# Altium integrated library Capacitor - Ceramic - Sumsung.IntLib: 1421 symbols (part 13 of 22)
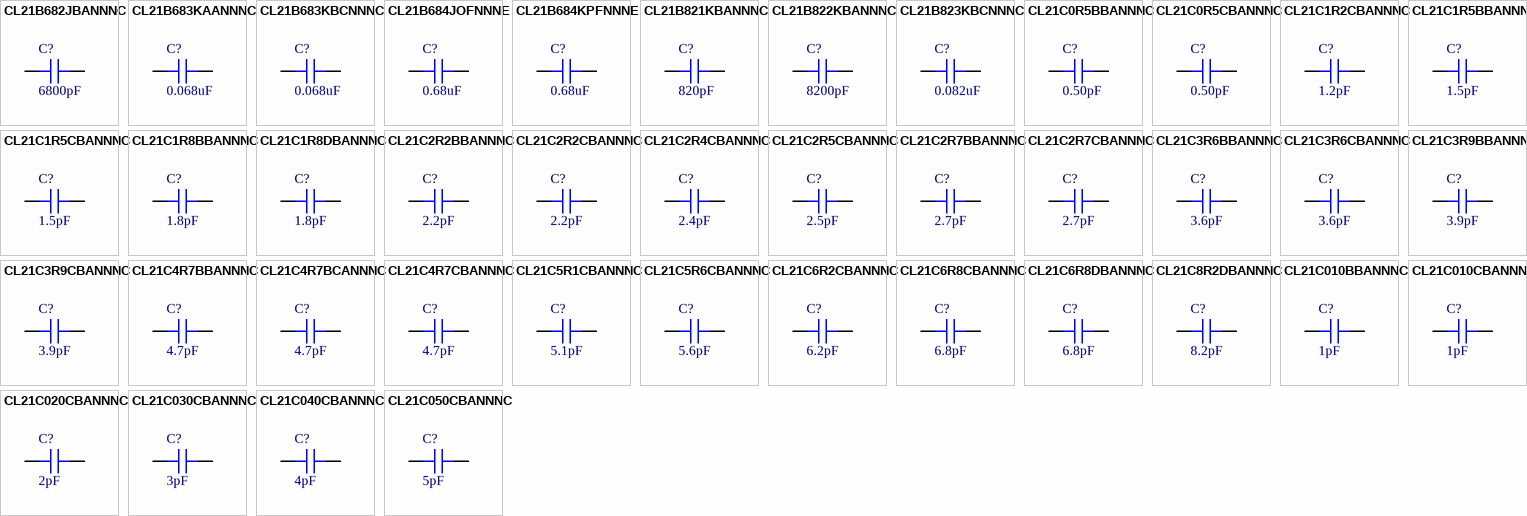
[diagram p47: symbols CL21B682JBANNNC to CL21C050CBANNNC]

## CL21B684KPFNNNE
designator C?, comment 0.68uF
CAP CER 0.68UF 10V X7R 0805; Part Number: CL21B684KPFNNNE; Manufacturer: Samsung Electro-Mechanics America, Inc.; TemperatureRange: -55C ~ 125C; Tolerance: 10%; Value: 0.68uF; PartId: 5923; Supplier 1: Digi-Key; Supplier Part Number 1: 1276-2979-2-ND; ComponentLink1Description: Datasheet; ComponentLink1URL: http://www.samsungsem.com/kr/support/product-search/mlcc/CL21B684KPFNNNE.jsp; ComponentLink2Description: Digi-Key listing; ComponentLink2URL: http://digikey.com/product-detail/en/CL21B684KPFNNNE/1276-2979-2-ND/3888637; TemperatureCoefficient: X7R; Voltage: 10V; Price: 0.0405; Type: -; Device Package: 0805 (2012 Metric)
footprint CAP 0805/2012
pins: 1, 2

## CL21B821KBANNNC
designator C?, comment 820pF
CAP CER 820PF 50V X7R 0805; Part Number: CL21B821KBANNNC; Manufacturer: Samsung Electro-Mechanics America, Inc.; TemperatureRange: -55C ~ 125C; Tolerance: 10%; Value: 820pF; PartId: 5744; Supplier 1: Digi-Key; Supplier Part Number 1: 1276-2544-2-ND; ComponentLink1Description: Datasheet; ComponentLink1URL: http://www.samsungsem.com/kr/support/product-search/mlcc/CL21B821KBANNNC.jsp; ComponentLink2Description: Digi-Key listing; ComponentLink2URL: http://digikey.com/product-detail/en/CL21B821KBANNNC/1276-2544-2-ND/3888202; TemperatureCoefficient: X7R; Voltage: 50V; Price: 0.0153; Type: -; Device Package: 0805 (2012 Metric)
footprint CAP 0805/2012
pins: 1, 2

## CL21B822KBANNNC
designator C?, comment 8200pF
CAP CER 8200PF 50V X7R 0805; Part Number: CL21B822KBANNNC; Manufacturer: Samsung Electro-Mechanics America, Inc.; TemperatureRange: -55C ~ 125C; Tolerance: 10%; Value: 8200pF; PartId: 5738; Supplier 1: Digi-Key; Supplier Part Number 1: 1276-2546-2-ND; ComponentLink1Description: Datasheet; ComponentLink1URL: http://www.samsungsem.com/kr/support/product-search/mlcc/CL21B822KBANNNC.jsp; ComponentLink2Description: Digi-Key listing; ComponentLink2URL: http://digikey.com/product-detail/en/CL21B822KBANNNC/1276-2546-2-ND/3888204; TemperatureCoefficient: X7R; Voltage: 50V; Price: 0.0153; Type: -; Device Package: 0805 (2012 Metric)
footprint CAP 0805/2012
pins: 1, 2

## CL21B823KBCNNNC
designator C?, comment 0.082uF
CAP CER 0.082UF 50V X7R 0805; Part Number: CL21B823KBCNNNC; Manufacturer: Samsung Electro-Mechanics America, Inc.; TemperatureRange: -55C ~ 125C; Tolerance: 10%; Value: 0.082uF; PartId: 5876; Supplier 1: Digi-Key; Supplier Part Number 1: 1276-2547-2-ND; ComponentLink1Description: Datasheet; ComponentLink1URL: http://www.samsungsem.com/kr/support/product-search/mlcc/CL21B823KBCNNNC.jsp; ComponentLink2Description: Digi-Key listing; ComponentLink2URL: http://digikey.com/product-detail/en/CL21B823KBCNNNC/1276-2547-2-ND/3888205; TemperatureCoefficient: X7R; Voltage: 50V; Price: 0.0308; Type: -; Device Package: 0805 (2012 Metric)
footprint CAP 0805/2012
pins: 1, 2

## CL21C0R5BBANNNC
designator C?, comment 0.50pF
CAP CER 0.50PF 50V NP0 0805; Part Number: CL21C0R5BBANNNC; Manufacturer: Samsung Electro-Mechanics America, Inc.; TemperatureRange: -55C ~ 125C; TemperatureCoefficient: C0G, NP0; Tolerance: 0.1pF; Value: 0.50pF; PartId: 5684; Supplier 1: Digi-Key; Supplier Part Number 1: 1276-1200-2-ND; ComponentLink1Description: Datasheet; ComponentLink1URL: http://www.samsungsem.com/kr/support/product-search/mlcc/CL21C0R5BBANNNC.jsp; ComponentLink2Description: Digi-Key listing; ComponentLink2URL: http://digikey.com/product-detail/en/CL21C0R5BBANNNC/1276-1200-2-ND/3886858; Voltage: 50V; Price: 0.0065; Type: -; Device Package: 0805 (2012 Metric)
footprint CAP 0805/2012
pins: 1, 2

## CL21C0R5CBANNNC
designator C?, comment 0.50pF
CAP CER 0.50PF 50V NP0 0805; Part Number: CL21C0R5CBANNNC; Manufacturer: Samsung Electro-Mechanics America, Inc.; TemperatureRange: -55C ~ 125C; TemperatureCoefficient: C0G, NP0; Tolerance: 0.25pF; Value: 0.50pF; PartId: 5774; Supplier 1: Digi-Key; Supplier Part Number 1: 1276-2560-2-ND; ComponentLink1Description: Datasheet; ComponentLink1URL: http://www.samsungsem.com/kr/support/product-search/mlcc/CL21C0R5CBANNNC.jsp; ComponentLink2Description: Digi-Key listing; ComponentLink2URL: http://digikey.com/product-detail/en/CL21C0R5CBANNNC/1276-2560-2-ND/3888218; Voltage: 50V; Price: 0.0163; Type: -; Device Package: 0805 (2012 Metric)
footprint CAP 0805/2012
pins: 1, 2

## CL21C1R2CBANNNC
designator C?, comment 1.2pF
CAP CER 1.2PF 50V NP0 0805; Part Number: CL21C1R2CBANNNC; Manufacturer: Samsung Electro-Mechanics America, Inc.; TemperatureRange: -55C ~ 125C; TemperatureCoefficient: C0G, NP0; Tolerance: 0.25pF; Value: 1.2pF; PartId: 5766; Supplier 1: Digi-Key; Supplier Part Number 1: 1276-2596-2-ND; ComponentLink1Description: Datasheet; ComponentLink1URL: http://www.samsungsem.com/kr/support/product-search/mlcc/CL21C1R2CBANNNC.jsp; ComponentLink2Description: Digi-Key listing; ComponentLink2URL: http://digikey.com/product-detail/en/CL21C1R2CBANNNC/1276-2596-2-ND/3888254; Voltage: 50V; Price: 0.0163; Type: -; Device Package: 0805 (2012 Metric)
footprint CAP 0805/2012
pins: 1, 2

## CL21C1R5BBANNNC
designator C?, comment 1.5pF
CAP CER 1.5PF 50V NP0 0805; Part Number: CL21C1R5BBANNNC; Manufacturer: Samsung Electro-Mechanics America, Inc.; TemperatureRange: -55C ~ 125C; TemperatureCoefficient: C0G, NP0; Tolerance: 0.1pF; Value: 1.5pF; PartId: 5687; Supplier 1: Digi-Key; Supplier Part Number 1: 1276-2597-2-ND; ComponentLink1Description: Datasheet; ComponentLink1URL: http://www.samsungsem.com/kr/support/product-search/mlcc/CL21C1R5BBANNNC.jsp; ComponentLink2Description: Digi-Key listing; ComponentLink2URL: http://digikey.com/product-detail/en/CL21C1R5BBANNNC/1276-2597-2-ND/3888255; Voltage: 50V; Price: 0.0068; Type: -; Device Package: 0805 (2012 Metric)
footprint CAP 0805/2012
pins: 1, 2

## CL21C1R5CBANNNC
designator C?, comment 1.5pF
CAP CER 1.5PF 50V NP0 0805; Part Number: CL21C1R5CBANNNC; Manufacturer: Samsung Electro-Mechanics America, Inc.; TemperatureRange: -55C ~ 125C; TemperatureCoefficient: C0G, NP0; Tolerance: 0.25pF; Value: 1.5pF; PartId: 5759; Supplier 1: Digi-Key; Supplier Part Number 1: 1276-2598-2-ND; ComponentLink1Description: Datasheet; ComponentLink1URL: http://www.samsungsem.com/kr/support/product-search/mlcc/CL21C1R5CBANNNC.jsp; ComponentLink2Description: Digi-Key listing; ComponentLink2URL: http://digikey.com/product-detail/en/CL21C1R5CBANNNC/1276-2598-2-ND/3888256; Voltage: 50V; Price: 0.0163; Type: -; Device Package: 0805 (2012 Metric)
footprint CAP 0805/2012
pins: 1, 2

## CL21C1R8BBANNNC
designator C?, comment 1.8pF
CAP CER 1.8PF 50V NP0 0805; Part Number: CL21C1R8BBANNNC; Manufacturer: Samsung Electro-Mechanics America, Inc.; TemperatureRange: -55C ~ 125C; TemperatureCoefficient: C0G, NP0; Tolerance: 0.1pF; Value: 1.8pF; PartId: 5688; Supplier 1: Digi-Key; Supplier Part Number 1: 1276-1800-2-ND; ComponentLink1Description: Datasheet; ComponentLink1URL: http://www.samsungsem.com/kr/support/product-search/mlcc/CL21C1R8BBANNNC.jsp; ComponentLink2Description: Digi-Key listing; ComponentLink2URL: http://digikey.com/product-detail/en/CL21C1R8BBANNNC/1276-1800-2-ND/3887458; Voltage: 50V; Price: 0.0068; Type: -; Device Package: 0805 (2012 Metric)
footprint CAP 0805/2012
pins: 1, 2

## CL21C1R8DBANNNC
designator C?, comment 1.8pF
CAP CER 1.8PF 50V NP0 0805; Part Number: CL21C1R8DBANNNC; Manufacturer: Samsung Electro-Mechanics America, Inc.; TemperatureRange: -55C ~ 125C; TemperatureCoefficient: C0G, NP0; Tolerance: 0.5pF; Value: 1.8pF; PartId: 5685; Supplier 1: Digi-Key; Supplier Part Number 1: 1276-2600-2-ND; ComponentLink1Description: Datasheet; ComponentLink1URL: http://www.samsungsem.com/kr/support/product-search/mlcc/CL21C1R8DBANNNC.jsp; ComponentLink2Description: Digi-Key listing; ComponentLink2URL: http://digikey.com/product-detail/en/CL21C1R8DBANNNC/1276-2600-2-ND/3888258; Voltage: 50V; Price: 0.0066; Type: -; Device Package: 0805 (2012 Metric)
footprint CAP 0805/2012
pins: 1, 2

## CL21C2R2BBANNNC
designator C?, comment 2.2pF
CAP CER 2.2PF 50V NP0 0805; Part Number: CL21C2R2BBANNNC; Manufacturer: Samsung Electro-Mechanics America, Inc.; TemperatureRange: -55C ~ 125C; TemperatureCoefficient: C0G, NP0; Tolerance: 0.1pF; Value: 2.2pF; PartId: 5682; Supplier 1: Digi-Key; Supplier Part Number 1: 1276-2629-2-ND; ComponentLink1Description: Datasheet; ComponentLink1URL: http://www.samsungsem.com/kr/support/product-search/mlcc/CL21C2R2BBANNNC.jsp; ComponentLink2Description: Digi-Key listing; ComponentLink2URL: http://digikey.com/product-detail/en/CL21C2R2BBANNNC/1276-2629-2-ND/3888287; Voltage: 50V; Price: 0.0061; Type: -; Device Package: 0805 (2012 Metric)
footprint CAP 0805/2012
pins: 1, 2

## CL21C2R2CBANNNC
designator C?, comment 2.2pF
CAP CER 2.2PF 50V NP0 0805; Part Number: CL21C2R2CBANNNC; Manufacturer: Samsung Electro-Mechanics America, Inc.; TemperatureRange: -55C ~ 125C; TemperatureCoefficient: C0G, NP0; Tolerance: 0.25pF; Value: 2.2pF; PartId: 5768; Supplier 1: Digi-Key; Supplier Part Number 1: 1276-1302-2-ND; ComponentLink1Description: Datasheet; ComponentLink1URL: http://www.samsungsem.com/kr/support/product-search/mlcc/CL21C2R2CBANNNC.jsp; ComponentLink2Description: Digi-Key listing; ComponentLink2URL: http://digikey.com/product-detail/en/CL21C2R2CBANNNC/1276-1302-2-ND/3886960; Voltage: 50V; Price: 0.0163; Type: -; Device Package: 0805 (2012 Metric)
footprint CAP 0805/2012
pins: 1, 2

## CL21C2R4CBANNNC
designator C?, comment 2.4pF
CAP CER 2.4PF 50V NP0 0805; Part Number: CL21C2R4CBANNNC; Manufacturer: Samsung Electro-Mechanics America, Inc.; TemperatureRange: -55C ~ 125C; TemperatureCoefficient: C0G, NP0; Tolerance: 0.25pF; Value: 2.4pF; PartId: 5671; Supplier 1: Digi-Key; Supplier Part Number 1: 1276-2630-2-ND; ComponentLink1Description: Datasheet; ComponentLink1URL: http://www.samsungsem.com/kr/support/product-search/mlcc/CL21C2R4CBANNNC.jsp; ComponentLink2Description: Digi-Key listing; ComponentLink2URL: http://digikey.com/product-detail/en/CL21C2R4CBANNNC/1276-2630-2-ND/3888288; Voltage: 50V; Price: 0.0054; Type: -; Device Package: 0805 (2012 Metric)
footprint CAP 0805/2012
pins: 1, 2

## CL21C2R5CBANNNC
designator C?, comment 2.5pF
CAP CER 2.5PF 50V NP0 0805; Part Number: CL21C2R5CBANNNC; Manufacturer: Samsung Electro-Mechanics America, Inc.; TemperatureRange: -55C ~ 125C; TemperatureCoefficient: C0G, NP0; Tolerance: 0.25pF; Value: 2.5pF; PartId: 5677; Supplier 1: Digi-Key; Supplier Part Number 1: 1276-2631-2-ND; ComponentLink1Description: Datasheet; ComponentLink1URL: http://www.samsungsem.com/kr/support/product-search/mlcc/CL21C2R5CBANNNC.jsp; ComponentLink2Description: Digi-Key listing; ComponentLink2URL: http://digikey.com/product-detail/en/CL21C2R5CBANNNC/1276-2631-2-ND/3888289; Voltage: 50V; Price: 0.0054; Type: -; Device Package: 0805 (2012 Metric)
footprint CAP 0805/2012
pins: 1, 2

## CL21C2R7BBANNNC
designator C?, comment 2.7pF
CAP CER 2.7PF 50V NP0 0805; Part Number: CL21C2R7BBANNNC; Manufacturer: Samsung Electro-Mechanics America, Inc.; TemperatureRange: -55C ~ 125C; TemperatureCoefficient: C0G, NP0; Tolerance: 0.1pF; Value: 2.7pF; PartId: 5689; Supplier 1: Digi-Key; Supplier Part Number 1: 1276-2632-2-ND; ComponentLink1Description: Datasheet; ComponentLink1URL: http://www.samsungsem.com/kr/support/product-search/mlcc/CL21C2R7BBANNNC.jsp; ComponentLink2Description: Digi-Key listing; ComponentLink2URL: http://digikey.com/product-detail/en/CL21C2R7BBANNNC/1276-2632-2-ND/3888290; Voltage: 50V; Price: 0.0068; Type: -; Device Package: 0805 (2012 Metric)
footprint CAP 0805/2012
pins: 1, 2

## CL21C2R7CBANNNC
designator C?, comment 2.7pF
CAP CER 2.7PF 50V NP0 0805; Part Number: CL21C2R7CBANNNC; Manufacturer: Samsung Electro-Mechanics America, Inc.; TemperatureRange: -55C ~ 125C; TemperatureCoefficient: C0G, NP0; Tolerance: 0.25pF; Value: 2.7pF; PartId: 5770; Supplier 1: Digi-Key; Supplier Part Number 1: 1276-2633-2-ND; ComponentLink1Description: Datasheet; ComponentLink1URL: http://www.samsungsem.com/kr/support/product-search/mlcc/CL21C2R7CBANNNC.jsp; ComponentLink2Description: Digi-Key listing; ComponentLink2URL: http://digikey.com/product-detail/en/CL21C2R7CBANNNC/1276-2633-2-ND/3888291; Voltage: 50V; Price: 0.0163; Type: -; Device Package: 0805 (2012 Metric)
footprint CAP 0805/2012
pins: 1, 2

## CL21C3R6BBANNNC
designator C?, comment 3.6pF
CAP CER 3.6PF 50V NP0 0805; Part Number: CL21C3R6BBANNNC; Manufacturer: Samsung Electro-Mechanics America, Inc.; TemperatureRange: -55C ~ 125C; TemperatureCoefficient: C0G, NP0; Tolerance: 0.1pF; Value: 3.6pF; PartId: 5702; Supplier 1: Digi-Key; Supplier Part Number 1: 1276-2655-2-ND; ComponentLink1Description: Datasheet; ComponentLink1URL: http://www.samsungsem.com/kr/support/product-search/mlcc/CL21C3R6BBANNNC.jsp; ComponentLink2Description: Digi-Key listing; ComponentLink2URL: http://digikey.com/product-detail/en/CL21C3R6BBANNNC/1276-2655-2-ND/3888313; Voltage: 50V; Price: 0.0109; Type: -; Device Package: 0805 (2012 Metric)
footprint CAP 0805/2012
pins: 1, 2

## CL21C3R6CBANNNC
designator C?, comment 3.6pF
CAP CER 3.6PF 50V NP0 0805; Part Number: CL21C3R6CBANNNC; Manufacturer: Samsung Electro-Mechanics America, Inc.; TemperatureRange: -55C ~ 125C; TemperatureCoefficient: C0G, NP0; Tolerance: 0.25pF; Value: 3.6pF; PartId: 5675; Supplier 1: Digi-Key; Supplier Part Number 1: 1276-1831-2-ND; ComponentLink1Description: Datasheet; ComponentLink1URL: http://www.samsungsem.com/kr/support/product-search/mlcc/CL21C3R6CBANNNC.jsp; ComponentLink2Description: Digi-Key listing; ComponentLink2URL: http://digikey.com/product-detail/en/CL21C3R6CBANNNC/1276-1831-2-ND/3887489; Voltage: 50V; Price: 0.0054; Type: -; Device Package: 0805 (2012 Metric)
footprint CAP 0805/2012
pins: 1, 2

## CL21C3R9BBANNNC
designator C?, comment 3.9pF
CAP CER 3.9PF 50V NP0 0805; Part Number: CL21C3R9BBANNNC; Manufacturer: Samsung Electro-Mechanics America, Inc.; TemperatureRange: -55C ~ 125C; TemperatureCoefficient: C0G, NP0; Tolerance: 0.1pF; Value: 3.9pF; PartId: 5701; Supplier 1: Digi-Key; Supplier Part Number 1: 1276-1801-2-ND; ComponentLink1Description: Datasheet; ComponentLink1URL: http://www.samsungsem.com/kr/support/product-search/mlcc/CL21C3R9BBANNNC.jsp; ComponentLink2Description: Digi-Key listing; ComponentLink2URL: http://digikey.com/product-detail/en/CL21C3R9BBANNNC/1276-1801-2-ND/3887459; Voltage: 50V; Price: 0.0105; Type: -; Device Package: 0805 (2012 Metric)
footprint CAP 0805/2012
pins: 1, 2

## CL21C3R9CBANNNC
designator C?, comment 3.9pF
CAP CER 3.9PF 50V NP0 0805; Part Number: CL21C3R9CBANNNC; Manufacturer: Samsung Electro-Mechanics America, Inc.; TemperatureRange: -55C ~ 125C; TemperatureCoefficient: C0G, NP0; Tolerance: 0.25pF; Value: 3.9pF; PartId: 5755; Supplier 1: Digi-Key; Supplier Part Number 1: 1276-1304-2-ND; ComponentLink1Description: Datasheet; ComponentLink1URL: http://www.samsungsem.com/kr/support/product-search/mlcc/CL21C3R9CBANNNC.jsp; ComponentLink2Description: Digi-Key listing; ComponentLink2URL: http://digikey.com/product-detail/en/CL21C3R9CBANNNC/1276-1304-2-ND/3886962; Voltage: 50V; Price: 0.0163; Type: -; Device Package: 0805 (2012 Metric)
footprint CAP 0805/2012
pins: 1, 2

## CL21C4R7BBANNNC
designator C?, comment 4.7pF
CAP CER 4.7PF 50V NP0 0805; Part Number: CL21C4R7BBANNNC; Manufacturer: Samsung Electro-Mechanics America, Inc.; TemperatureRange: -55C ~ 125C; TemperatureCoefficient: C0G, NP0; Tolerance: 0.1pF; Value: 4.7pF; PartId: 5686; Supplier 1: Digi-Key; Supplier Part Number 1: 1276-1832-2-ND; ComponentLink1Description: Datasheet; ComponentLink1URL: http://www.samsungsem.com/kr/support/product-search/mlcc/CL21C4R7BBANNNC.jsp; ComponentLink2Description: Digi-Key listing; ComponentLink2URL: http://digikey.com/product-detail/en/CL21C4R7BBANNNC/1276-1832-2-ND/3887490; Voltage: 50V; Price: 0.0068; Type: -; Device Package: 0805 (2012 Metric)
footprint CAP 0805/2012
pins: 1, 2

## CL21C4R7BCANNNC
designator C?, comment 4.7pF
CAP CER 4.7PF 100V NP0 0805; Part Number: CL21C4R7BCANNNC; Manufacturer: Samsung Electro-Mechanics America, Inc.; TemperatureRange: -55C ~ 125C; TemperatureCoefficient: C0G, NP0; Tolerance: 0.1pF; Value: 4.7pF; PartId: 5796; Supplier 1: Digi-Key; Supplier Part Number 1: 1276-2669-2-ND; ComponentLink1Description: Datasheet; ComponentLink1URL: http://www.samsungsem.com/kr/support/product-search/mlcc/CL21C4R7BCANNNC.jsp; ComponentLink2Description: Digi-Key listing; ComponentLink2URL: http://digikey.com/product-detail/en/CL21C4R7BCANNNC/1276-2669-2-ND/3888327; Voltage: 100V; Price: 0.018; Type: -; Device Package: 0805 (2012 Metric)
footprint CAP 0805/2012
pins: 1, 2

## CL21C4R7CBANNNC
designator C?, comment 4.7pF
CAP CER 4.7PF 50V NP0 0805; Part Number: CL21C4R7CBANNNC; Manufacturer: Samsung Electro-Mechanics America, Inc.; TemperatureRange: -55C ~ 125C; TemperatureCoefficient: C0G, NP0; Tolerance: 0.25pF; Value: 4.7pF; PartId: 5767; Supplier 1: Digi-Key; Supplier Part Number 1: 1276-1263-2-ND; ComponentLink1Description: Datasheet; ComponentLink1URL: http://www.samsungsem.com/kr/support/product-search/mlcc/CL21C4R7CBANNNC.jsp; ComponentLink2Description: Digi-Key listing; ComponentLink2URL: http://digikey.com/product-detail/en/CL21C4R7CBANNNC/1276-1263-2-ND/3886921; Voltage: 50V; Price: 0.0163; Type: -; Device Package: 0805 (2012 Metric)
footprint CAP 0805/2012
pins: 1, 2

## CL21C5R1CBANNNC
designator C?, comment 5.1pF
CAP CER 5.1PF 50V NP0 0805; Part Number: CL21C5R1CBANNNC; Manufacturer: Samsung Electro-Mechanics America, Inc.; TemperatureRange: -55C ~ 125C; TemperatureCoefficient: C0G, NP0; Tolerance: 0.25pF; Value: 5.1pF; PartId: 5696; Supplier 1: Digi-Key; Supplier Part Number 1: 1276-2674-2-ND; ComponentLink1Description: Datasheet; ComponentLink1URL: http://www.samsungsem.com/kr/support/product-search/mlcc/CL21C5R1CBANNNC.jsp; ComponentLink2Description: Digi-Key listing; ComponentLink2URL: http://digikey.com/product-detail/en/CL21C5R1CBANNNC/1276-2674-2-ND/3888332; Voltage: 50V; Price: 0.0082; Type: -; Device Package: 0805 (2012 Metric)
footprint CAP 0805/2012
pins: 1, 2

## CL21C5R6CBANNNC
designator C?, comment 5.6pF
CAP CER 5.6PF 50V NP0 0805; Part Number: CL21C5R6CBANNNC; Manufacturer: Samsung Electro-Mechanics America, Inc.; TemperatureRange: -55C ~ 125C; TemperatureCoefficient: C0G, NP0; Tolerance: 0.25pF; Value: 5.6pF; PartId: 5828; Supplier 1: Digi-Key; Supplier Part Number 1: 1276-1190-2-ND; ComponentLink1Description: Datasheet; ComponentLink1URL: http://www.samsungsem.com/kr/support/product-search/mlcc/CL21C5R6CBANNNC.jsp; ComponentLink2Description: Digi-Key listing; ComponentLink2URL: http://digikey.com/product-detail/en/CL21C5R6CBANNNC/1276-1190-2-ND/3886848; Voltage: 50V; Price: 0.0225; Type: -; Device Package: 0805 (2012 Metric)
footprint CAP 0805/2012
pins: 1, 2

## CL21C6R2CBANNNC
designator C?, comment 6.2pF
CAP CER 6.2PF 50V NP0 0805; Part Number: CL21C6R2CBANNNC; Manufacturer: Samsung Electro-Mechanics America, Inc.; TemperatureRange: -55C ~ 125C; TemperatureCoefficient: C0G, NP0; Tolerance: 0.25pF; Value: 6.2pF; PartId: 5698; Supplier 1: Digi-Key; Supplier Part Number 1: 1276-2688-2-ND; ComponentLink1Description: Datasheet; ComponentLink1URL: http://www.samsungsem.com/kr/support/product-search/mlcc/CL21C6R2CBANNNC.jsp; ComponentLink2Description: Digi-Key listing; ComponentLink2URL: http://digikey.com/product-detail/en/CL21C6R2CBANNNC/1276-2688-2-ND/3888346; Voltage: 50V; Price: 0.0095; Type: -; Device Package: 0805 (2012 Metric)
footprint CAP 0805/2012
pins: 1, 2

## CL21C6R8CBANNNC
designator C?, comment 6.8pF
CAP CER 6.8PF 50V NP0 0805; Part Number: CL21C6R8CBANNNC; Manufacturer: Samsung Electro-Mechanics America, Inc.; TemperatureRange: -55C ~ 125C; TemperatureCoefficient: C0G, NP0; Tolerance: 0.25pF; Value: 6.8pF; PartId: 5784; Supplier 1: Digi-Key; Supplier Part Number 1: 1276-1064-2-ND; ComponentLink1Description: Datasheet; ComponentLink1URL: http://www.samsungsem.com/kr/support/product-search/mlcc/CL21C6R8CBANNNC.jsp; ComponentLink2Description: Digi-Key listing; ComponentLink2URL: http://digikey.com/product-detail/en/CL21C6R8CBANNNC/1276-1064-2-ND/3886722; Voltage: 50V; Price: 0.0173; Type: -; Device Package: 0805 (2012 Metric)
footprint CAP 0805/2012
pins: 1, 2

## CL21C6R8DBANNNC
designator C?, comment 6.8pF
CAP CER 6.8PF 50V NP0 0805; Part Number: CL21C6R8DBANNNC; Manufacturer: Samsung Electro-Mechanics America, Inc.; TemperatureRange: -55C ~ 125C; TemperatureCoefficient: C0G, NP0; Tolerance: 0.5pF; Value: 6.8pF; PartId: 5775; Supplier 1: Digi-Key; Supplier Part Number 1: 1276-2689-2-ND; ComponentLink1Description: Datasheet; ComponentLink1URL: http://www.samsungsem.com/kr/support/product-search/mlcc/CL21C6R8DBANNNC.jsp; ComponentLink2Description: Digi-Key listing; ComponentLink2URL: http://digikey.com/product-detail/en/CL21C6R8DBANNNC/1276-2689-2-ND/3888347; Voltage: 50V; Price: 0.0163; Type: -; Device Package: 0805 (2012 Metric)
footprint CAP 0805/2012
pins: 1, 2

## CL21C8R2DBANNNC
designator C?, comment 8.2pF
CAP CER 8.2PF 50V NP0 0805; Part Number: CL21C8R2DBANNNC; Manufacturer: Samsung Electro-Mechanics America, Inc.; TemperatureRange: -55C ~ 125C; TemperatureCoefficient: C0G, NP0; Tolerance: 0.5pF; Value: 8.2pF; PartId: 5771; Supplier 1: Digi-Key; Supplier Part Number 1: 1276-2697-2-ND; ComponentLink1Description: Datasheet; ComponentLink1URL: http://www.samsungsem.com/kr/support/product-search/mlcc/CL21C8R2DBANNNC.jsp; ComponentLink2Description: Digi-Key listing; ComponentLink2URL: http://digikey.com/product-detail/en/CL21C8R2DBANNNC/1276-2697-2-ND/3888355; Voltage: 50V; Price: 0.0163; Type: -; Device Package: 0805 (2012 Metric)
footprint CAP 0805/2012
pins: 1, 2

## CL21C010BBANNNC
designator C?, comment 1pF
CAP CER 1PF 50V NP0 0805; Part Number: CL21C010BBANNNC; Manufacturer: Samsung Electro-Mechanics America, Inc.; TemperatureRange: -55C ~ 125C; TemperatureCoefficient: C0G, NP0; Tolerance: 0.1pF; Value: 1pF; PartId: 13979; Supplier 1: Digi-Key; Supplier Part Number 1: 1276-1766-2-ND; ComponentLink1Description: Datasheet; ComponentLink1URL: http://www.samsungsem.com/kr/support/product-search/mlcc/CL21C010BBANNNC.jsp; ComponentLink2Description: Digi-Key Listing; ComponentLink2URL: https://www.digikey.com/product-detail/en/samsung-electro-mechanics-america-inc/CL21C010BBANNNC/1276-1766-2-ND/3887424; Voltage: 50V; Price: 0.0045; Device Package: 0805 (2012 Metric)
footprint CAP 0805/2012
pins: 1, 2

## CL21C010CBANNNC
designator C?, comment 1pF
CAP CER 1PF 50V NP0 0805; Part Number: CL21C010CBANNNC; Manufacturer: Samsung Electro-Mechanics America, Inc.; TemperatureRange: -55C ~ 125C; TemperatureCoefficient: C0G, NP0; Tolerance: 0.25pF; Value: 1pF; PartId: 5761; Supplier 1: Digi-Key; Supplier Part Number 1: 1276-2548-2-ND; ComponentLink1Description: Datasheet; ComponentLink1URL: http://www.samsungsem.com/kr/support/product-search/mlcc/CL21C010CBANNNC.jsp; ComponentLink2Description: Digi-Key listing; ComponentLink2URL: http://digikey.com/product-detail/en/CL21C010CBANNNC/1276-2548-2-ND/3888206; Voltage: 50V; Price: 0.0163; Type: -; Device Package: 0805 (2012 Metric)
footprint CAP 0805/2012
pins: 1, 2

## CL21C020CBANNNC
designator C?, comment 2pF
CAP CER 2PF 50V NP0 0805; Part Number: CL21C020CBANNNC; Manufacturer: Samsung Electro-Mechanics America, Inc.; TemperatureRange: -55C ~ 125C; TemperatureCoefficient: C0G, NP0; Tolerance: 0.25pF; Value: 2pF; PartId: 5762; Supplier 1: Digi-Key; Supplier Part Number 1: 1276-2549-2-ND; ComponentLink1Description: Datasheet; ComponentLink1URL: http://www.samsungsem.com/kr/support/product-search/mlcc/CL21C020CBANNNC.jsp; ComponentLink2Description: Digi-Key listing; ComponentLink2URL: http://digikey.com/product-detail/en/CL21C020CBANNNC/1276-2549-2-ND/3888207; Voltage: 50V; Price: 0.0163; Type: -; Device Package: 0805 (2012 Metric)
footprint CAP 0805/2012
pins: 1, 2

## CL21C030CBANNNC
designator C?, comment 3pF
CAP CER 3PF 50V NP0 0805; Part Number: CL21C030CBANNNC; Manufacturer: Samsung Electro-Mechanics America, Inc.; TemperatureRange: -55C ~ 125C; TemperatureCoefficient: C0G, NP0; Tolerance: 0.25pF; Value: 3pF; PartId: 5754; Supplier 1: Digi-Key; Supplier Part Number 1: 1276-1301-2-ND; ComponentLink1Description: Datasheet; ComponentLink1URL: http://www.samsungsem.com/kr/support/product-search/mlcc/CL21C030CBANNNC.jsp; ComponentLink2Description: Digi-Key listing; ComponentLink2URL: http://digikey.com/product-detail/en/CL21C030CBANNNC/1276-1301-2-ND/3886959; Voltage: 50V; Price: 0.0163; Type: -; Device Package: 0805 (2012 Metric)
footprint CAP 0805/2012
pins: 1, 2

## CL21C040CBANNNC
designator C?, comment 4pF
CAP CER 4PF 50V NP0 0805; Part Number: CL21C040CBANNNC; Manufacturer: Samsung Electro-Mechanics America, Inc.; TemperatureRange: -55C ~ 125C; TemperatureCoefficient: C0G, NP0; Tolerance: 0.25pF; Value: 4pF; PartId: 5753; Supplier 1: Digi-Key; Supplier Part Number 1: 1276-2551-2-ND; ComponentLink1Description: Datasheet; ComponentLink1URL: http://www.samsungsem.com/kr/support/product-search/mlcc/CL21C040CBANNNC.jsp; ComponentLink2Description: Digi-Key listing; ComponentLink2URL: http://digikey.com/product-detail/en/CL21C040CBANNNC/1276-2551-2-ND/3888209; Voltage: 50V; Price: 0.0163; Type: -; Device Package: 0805 (2012 Metric)
footprint CAP 0805/2012
pins: 1, 2

## CL21C050CBANNNC
designator C?, comment 5pF
CAP CER 5PF 50V NP0 0805; Part Number: CL21C050CBANNNC; Manufacturer: Samsung Electro-Mechanics America, Inc.; TemperatureRange: -55C ~ 125C; TemperatureCoefficient: C0G, NP0; Tolerance: 0.25pF; Value: 5pF; PartId: 5758; Supplier 1: Digi-Key; Supplier Part Number 1: 1276-2552-2-ND; ComponentLink1Description: Datasheet; ComponentLink1URL: http://www.samsungsem.com/kr/support/product-search/mlcc/CL21C050CBANNNC.jsp; ComponentLink2Description: Digi-Key listing; ComponentLink2URL: http://digikey.com/product-detail/en/CL21C050CBANNNC/1276-2552-2-ND/3888210; Voltage: 50V; Price: 0.0163; Type: -; Device Package: 0805 (2012 Metric)
footprint CAP 0805/2012
pins: 1, 2

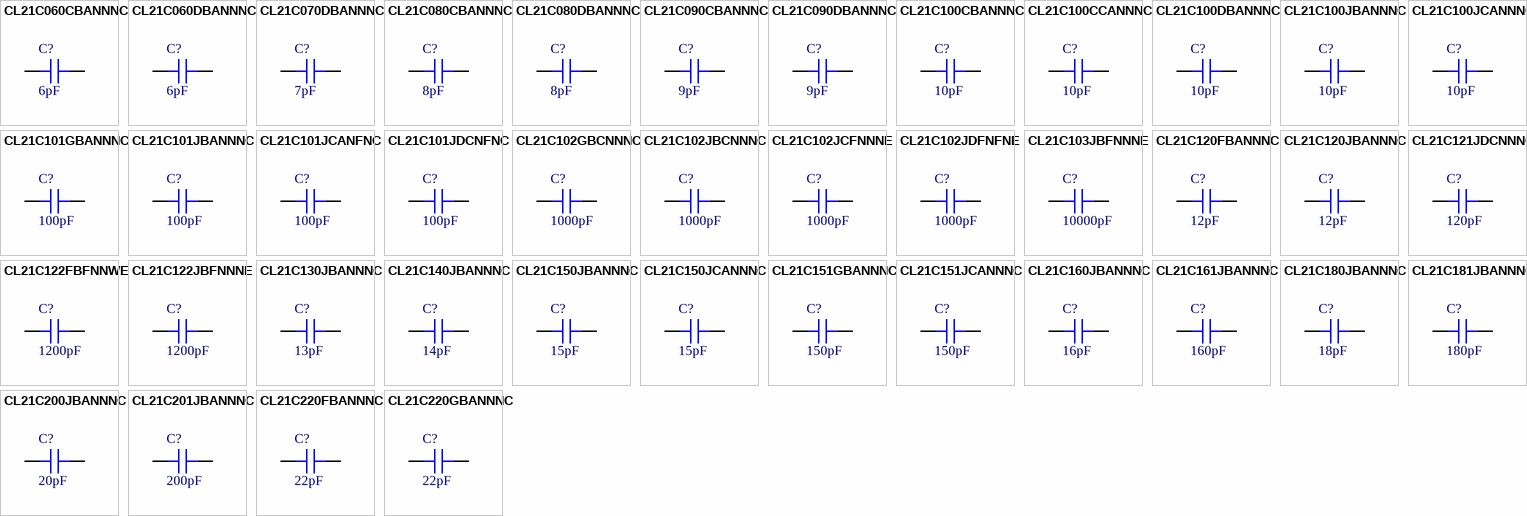
[diagram p21: symbols CL21C060CBANNNC to CL21C220GBANNNC]

## CL21C060CBANNNC
designator C?, comment 6pF
CAP CER 6PF 50V NP0 0805; Part Number: CL21C060CBANNNC; Manufacturer: Samsung Electro-Mechanics America, Inc.; TemperatureRange: -55C ~ 125C; TemperatureCoefficient: C0G, NP0; Tolerance: 0.25pF; Value: 6pF; PartId: 5678; Supplier 1: Digi-Key; Supplier Part Number 1: 1276-1767-2-ND; ComponentLink1Description: Datasheet; ComponentLink1URL: http://www.samsungsem.com/kr/support/product-search/mlcc/CL21C060CBANNNC.jsp; ComponentLink2Description: Digi-Key listing; ComponentLink2URL: http://digikey.com/product-detail/en/CL21C060CBANNNC/1276-1767-2-ND/3887425; Voltage: 50V; Price: 0.0058; Type: -; Device Package: 0805 (2012 Metric)
footprint CAP 0805/2012
pins: 1, 2

## CL21C060DBANNNC
designator C?, comment 6pF
CAP CER 6PF 50V NP0 0805; Part Number: CL21C060DBANNNC; Manufacturer: Samsung Electro-Mechanics America, Inc.; TemperatureRange: -55C ~ 125C; TemperatureCoefficient: C0G, NP0; Tolerance: 0.5pF; Value: 6pF; PartId: 5772; Supplier 1: Digi-Key; Supplier Part Number 1: 1276-2553-2-ND; ComponentLink1Description: Datasheet; ComponentLink1URL: http://www.samsungsem.com/kr/support/product-search/mlcc/CL21C060DBANNNC.jsp; ComponentLink2Description: Digi-Key listing; ComponentLink2URL: http://digikey.com/product-detail/en/CL21C060DBANNNC/1276-2553-2-ND/3888211; Voltage: 50V; Price: 0.0163; Type: -; Device Package: 0805 (2012 Metric)
footprint CAP 0805/2012
pins: 1, 2

## CL21C070DBANNNC
designator C?, comment 7pF
CAP CER 7PF 50V NP0 0805; Part Number: CL21C070DBANNNC; Manufacturer: Samsung Electro-Mechanics America, Inc.; TemperatureRange: -55C ~ 125C; TemperatureCoefficient: C0G, NP0; Tolerance: 0.5pF; Value: 7pF; PartId: 5769; Supplier 1: Digi-Key; Supplier Part Number 1: 1276-2555-2-ND; ComponentLink1Description: Datasheet; ComponentLink1URL: http://www.samsungsem.com/kr/support/product-search/mlcc/CL21C070DBANNNC.jsp; ComponentLink2Description: Digi-Key listing; ComponentLink2URL: http://digikey.com/product-detail/en/CL21C070DBANNNC/1276-2555-2-ND/3888213; Voltage: 50V; Price: 0.0163; Type: -; Device Package: 0805 (2012 Metric)
footprint CAP 0805/2012
pins: 1, 2

## CL21C080CBANNNC
designator C?, comment 8pF
CAP CER 8PF 50V NP0 0805; Part Number: CL21C080CBANNNC; Manufacturer: Samsung Electro-Mechanics America, Inc.; TemperatureRange: -55C ~ 125C; TemperatureCoefficient: C0G, NP0; Tolerance: 0.25pF; Value: 8pF; PartId: 5679; Supplier 1: Digi-Key; Supplier Part Number 1: 1276-2556-2-ND; ComponentLink1Description: Datasheet; ComponentLink1URL: http://www.samsungsem.com/kr/support/product-search/mlcc/CL21C080CBANNNC.jsp; ComponentLink2Description: Digi-Key listing; ComponentLink2URL: http://digikey.com/product-detail/en/CL21C080CBANNNC/1276-2556-2-ND/3888214; Voltage: 50V; Price: 0.0058; Type: -; Device Package: 0805 (2012 Metric)
footprint CAP 0805/2012
pins: 1, 2

## CL21C080DBANNNC
designator C?, comment 8pF
CAP CER 8PF 50V NP0 0805; Part Number: CL21C080DBANNNC; Manufacturer: Samsung Electro-Mechanics America, Inc.; TemperatureRange: -55C ~ 125C; TemperatureCoefficient: C0G, NP0; Tolerance: 0.5pF; Value: 8pF; PartId: 5763; Supplier 1: Digi-Key; Supplier Part Number 1: 1276-2557-2-ND; ComponentLink1Description: Datasheet; ComponentLink1URL: http://www.samsungsem.com/kr/support/product-search/mlcc/CL21C080DBANNNC.jsp; ComponentLink2Description: Digi-Key listing; ComponentLink2URL: http://digikey.com/product-detail/en/CL21C080DBANNNC/1276-2557-2-ND/3888215; Voltage: 50V; Price: 0.0163; Type: -; Device Package: 0805 (2012 Metric)
footprint CAP 0805/2012
pins: 1, 2

## CL21C090CBANNNC
designator C?, comment 9pF
CAP CER 9PF 50V NP0 0805; Part Number: CL21C090CBANNNC; Manufacturer: Samsung Electro-Mechanics America, Inc.; TemperatureRange: -55C ~ 125C; TemperatureCoefficient: C0G, NP0; Tolerance: 0.25pF; Value: 9pF; PartId: 5697; Supplier 1: Digi-Key; Supplier Part Number 1: 1276-2558-2-ND; ComponentLink1Description: Datasheet; ComponentLink1URL: http://www.samsungsem.com/kr/support/product-search/mlcc/CL21C090CBANNNC.jsp; ComponentLink2Description: Digi-Key listing; ComponentLink2URL: http://digikey.com/product-detail/en/CL21C090CBANNNC/1276-2558-2-ND/3888216; Voltage: 50V; Price: 0.0082; Type: -; Device Package: 0805 (2012 Metric)
footprint CAP 0805/2012
pins: 1, 2

## CL21C090DBANNNC
designator C?, comment 9pF
CAP CER 9PF 50V NP0 0805; Part Number: CL21C090DBANNNC; Manufacturer: Samsung Electro-Mechanics America, Inc.; TemperatureRange: -55C ~ 125C; TemperatureCoefficient: C0G, NP0; Tolerance: 0.5pF; Value: 9pF; PartId: 5773; Supplier 1: Digi-Key; Supplier Part Number 1: 1276-2559-2-ND; ComponentLink1Description: Datasheet; ComponentLink1URL: http://www.samsungsem.com/kr/support/product-search/mlcc/CL21C090DBANNNC.jsp; ComponentLink2Description: Digi-Key listing; ComponentLink2URL: http://digikey.com/product-detail/en/CL21C090DBANNNC/1276-2559-2-ND/3888217; Voltage: 50V; Price: 0.0163; Type: -; Device Package: 0805 (2012 Metric)
footprint CAP 0805/2012
pins: 1, 2

## CL21C100CBANNNC
designator C?, comment 10pF
CAP CER 10PF 50V NP0 0805; Part Number: CL21C100CBANNNC; Manufacturer: Samsung Electro-Mechanics America, Inc.; TemperatureRange: -55C ~ 125C; TemperatureCoefficient: C0G, NP0; Tolerance: 0.25pF; Value: 10pF; PartId: 5859; Supplier 1: Digi-Key; Supplier Part Number 1: 1276-2561-2-ND; ComponentLink1Description: Datasheet; ComponentLink1URL: http://www.samsungsem.com/kr/support/product-search/mlcc/CL21C100CBANNNC.jsp; ComponentLink2Description: Digi-Key listing; ComponentLink2URL: http://digikey.com/product-detail/en/CL21C100CBANNNC/1276-2561-2-ND/3888219; Voltage: 50V; Price: 0.0266; Type: -; Device Package: 0805 (2012 Metric)
footprint CAP 0805/2012
pins: 1, 2

## CL21C100CCANNNC
designator C?, comment 10pF
CAP CER 10PF 100V NP0 0805; Part Number: CL21C100CCANNNC; Manufacturer: Samsung Electro-Mechanics America, Inc.; TemperatureRange: -55C ~ 125C; TemperatureCoefficient: C0G, NP0; Tolerance: 0.25pF; Value: 10pF; PartId: 5890; Supplier 1: Digi-Key; Supplier Part Number 1: 1276-2562-2-ND; ComponentLink1Description: Datasheet; ComponentLink1URL: http://www.samsungsem.com/kr/support/product-search/mlcc/CL21C100CCANNNC.jsp; ComponentLink2Description: Digi-Key listing; ComponentLink2URL: http://digikey.com/product-detail/en/CL21C100CCANNNC/1276-2562-2-ND/3888220; Voltage: 100V; Price: 0.0334; Type: -; Device Package: 0805 (2012 Metric)
footprint CAP 0805/2012
pins: 1, 2

## CL21C100DBANNNC
designator C?, comment 10pF
CAP CER 10PF 50V NP0 0805; Part Number: CL21C100DBANNNC; Manufacturer: Samsung Electro-Mechanics America, Inc.; TemperatureRange: -55C ~ 125C; TemperatureCoefficient: C0G, NP0; Tolerance: 0.5pF; Value: 10pF; PartId: 5731; Supplier 1: Digi-Key; Supplier Part Number 1: 1276-2563-2-ND; ComponentLink1Description: Datasheet; ComponentLink1URL: http://www.samsungsem.com/kr/support/product-search/mlcc/CL21C100DBANNNC.jsp; ComponentLink2Description: Digi-Key listing; ComponentLink2URL: http://digikey.com/product-detail/en/CL21C100DBANNNC/1276-2563-2-ND/3888221; Voltage: 50V; Price: 0.0147; Type: -; Device Package: 0805 (2012 Metric)
footprint CAP 0805/2012
pins: 1, 2

## CL21C100JBANNNC
designator C?, comment 10pF
CAP CER 10PF 50V NP0 0805; Part Number: CL21C100JBANNNC; Manufacturer: Samsung Electro-Mechanics America, Inc.; TemperatureRange: -55C ~ 125C; TemperatureCoefficient: C0G, NP0; Tolerance: 5%; Value: 10pF; PartId: 5708; Supplier 1: Digi-Key; Supplier Part Number 1: 1276-1109-2-ND; ComponentLink1Description: Datasheet; ComponentLink1URL: http://www.samsungsem.com/kr/support/product-search/mlcc/CL21C100JBANNNC.jsp; ComponentLink2Description: Digi-Key listing; ComponentLink2URL: http://digikey.com/product-detail/en/CL21C100JBANNNC/1276-1109-2-ND/3886767; Voltage: 50V; Price: 0.0132; Type: -; Device Package: 0805 (2012 Metric)
footprint CAP 0805/2012
pins: 1, 2

## CL21C100JCANNNC
designator C?, comment 10pF
CAP CER 10PF 100V NP0 0805; Part Number: CL21C100JCANNNC; Manufacturer: Samsung Electro-Mechanics America, Inc.; TemperatureRange: -55C ~ 125C; TemperatureCoefficient: C0G, NP0; Tolerance: 5%; Value: 10pF; PartId: 5848; Supplier 1: Digi-Key; Supplier Part Number 1: 1276-2565-2-ND; ComponentLink1Description: Datasheet; ComponentLink1URL: http://www.samsungsem.com/kr/support/product-search/mlcc/CL21C100JCANNNC.jsp; ComponentLink2Description: Digi-Key listing; ComponentLink2URL: http://digikey.com/product-detail/en/CL21C100JCANNNC/1276-2565-2-ND/3888223; Voltage: 100V; Price: 0.0245; Type: -; Device Package: 0805 (2012 Metric)
footprint CAP 0805/2012
pins: 1, 2

## CL21C101GBANNNC
designator C?, comment 100pF
CAP CER 100PF 50V NP0 0805; Part Number: CL21C101GBANNNC; Manufacturer: Samsung Electro-Mechanics America, Inc.; TemperatureRange: -55C ~ 125C; TemperatureCoefficient: C0G, NP0; Tolerance: 2%; Value: 100pF; PartId: 5897; Supplier 1: Digi-Key; Supplier Part Number 1: 1276-2566-2-ND; ComponentLink1Description: Datasheet; ComponentLink1URL: http://www.samsungsem.com/kr/support/product-search/mlcc/CL21C101GBANNNC.jsp; ComponentLink2Description: Digi-Key listing; ComponentLink2URL: http://digikey.com/product-detail/en/CL21C101GBANNNC/1276-2566-2-ND/3888224; Voltage: 50V; Price: 0.0343; Type: -; Device Package: 0805 (2012 Metric)
footprint CAP 0805/2012
pins: 1, 2

## CL21C101JBANNNC
designator C?, comment 100pF
CAP CER 100PF 50V NP0 0805; Part Number: CL21C101JBANNNC; Manufacturer: Samsung Electro-Mechanics America, Inc.; TemperatureRange: -55C ~ 125C; TemperatureCoefficient: C0G, NP0; Tolerance: 5%; Value: 100pF; PartId: 13725; Supplier 1: Digi-Key; Supplier Part Number 1: 1276-1014-2-ND; ComponentLink1Description: Datasheet; ComponentLink1URL: http://www.samsungsem.com/kr/support/product-search/mlcc/CL21C101JBANNNC.jsp; ComponentLink2Description: Digi-Key Listing; ComponentLink2URL: https://www.digikey.com/product-detail/en/samsung-electro-mechanics-america-inc/CL21C101JBANNNC/1276-1014-2-ND/3886672; Voltage: 50V; Price: 0.0087; Device Package: 0805 (2012 Metric)
footprint CAP 0805/2012
pins: 1, 2

## CL21C101JCANFNC
designator C?, comment 100pF
CAP CER 100PF 100V NP0 0805; Part Number: CL21C101JCANFNC; Manufacturer: Samsung Electro-Mechanics America, Inc.; TemperatureRange: -55C ~ 125C; TemperatureCoefficient: C0G, NP0; Tolerance: 5%; Value: 100pF; PartId: 13971; Supplier 1: Digi-Key; Supplier Part Number 1: 1276-2570-2-ND; ComponentLink1Description: Datasheet; ComponentLink1URL: http://www.samsungsem.com/kr/support/product-search/mlcc/CL21C101JCANFNC.jsp; ComponentLink2Description: Digi-Key Listing; ComponentLink2URL: https://www.digikey.com/product-detail/en/samsung-electro-mechanics-america-inc/CL21C101JCANFNC/1276-2570-2-ND/3888228; Voltage: 100V; Price: 0.0142; Device Package: 0805 (2012 Metric)
footprint CAP 0805/2012
pins: 1, 2

## CL21C101JDCNFNC
designator C?, comment 100pF
CAP CER 100PF 200V NP0 0805; Part Number: CL21C101JDCNFNC; Manufacturer: Samsung Electro-Mechanics America, Inc.; TemperatureRange: -55C ~ 125C; TemperatureCoefficient: C0G, NP0; Tolerance: 5%; Value: 100pF; PartId: 5863; Supplier 1: Digi-Key; Supplier Part Number 1: 1276-2572-2-ND; ComponentLink1Description: Datasheet; ComponentLink1URL: http://www.samsungsem.com/kr/support/product-search/mlcc/CL21C101JDCNFNC.jsp; ComponentLink2Description: Digi-Key listing; ComponentLink2URL: http://digikey.com/product-detail/en/CL21C101JDCNFNC/1276-2572-2-ND/3888230; Voltage: 200V; Price: 0.0277; Type: -; Device Package: 0805 (2012 Metric)
footprint CAP 0805/2012
pins: 1, 2

## CL21C102GBCNNNC
designator C?, comment 1000pF
CAP CER 1000PF 50V NP0 0805; Part Number: CL21C102GBCNNNC; Manufacturer: Samsung Electro-Mechanics America, Inc.; TemperatureRange: -55C ~ 125C; TemperatureCoefficient: C0G, NP0; Tolerance: 2%; Value: 1000pF; PartId: 5939; Supplier 1: Digi-Key; Supplier Part Number 1: 1276-2574-2-ND; ComponentLink1Description: Datasheet; ComponentLink1URL: http://www.samsungsem.com/kr/support/product-search/mlcc/CL21C102GBCNNNC.jsp; ComponentLink2Description: Digi-Key listing; ComponentLink2URL: http://digikey.com/product-detail/en/CL21C102GBCNNNC/1276-2574-2-ND/3888232; Voltage: 50V; Price: 0.0441; Type: -; Device Package: 0805 (2012 Metric)
footprint CAP 0805/2012
pins: 1, 2

## CL21C102JBCNNNC
designator C?, comment 1000pF
CAP CER 1000PF 50V NP0 0805; Part Number: CL21C102JBCNNNC; Manufacturer: Samsung Electro-Mechanics America, Inc.; TemperatureRange: -55C ~ 125C; TemperatureCoefficient: C0G, NP0; Tolerance: 5%; Value: 1000pF; PartId: 5814; Supplier 1: Digi-Key; Supplier Part Number 1: 1276-1147-2-ND; ComponentLink1Description: Datasheet; ComponentLink1URL: http://www.samsungsem.com/kr/support/product-search/mlcc/CL21C102JBCNNNC.jsp; ComponentLink2Description: Digi-Key listing; ComponentLink2URL: http://digikey.com/product-detail/en/CL21C102JBCNNNC/1276-1147-2-ND/3886805; Voltage: 50V; Price: 0.0198; Type: -; Device Package: 0805 (2012 Metric)
footprint CAP 0805/2012
pins: 1, 2

## CL21C102JCFNNNE
designator C?, comment 1000pF
CAP CER 1000PF 100V NP0 0805; Part Number: CL21C102JCFNNNE; Manufacturer: Samsung Electro-Mechanics America, Inc.; TemperatureRange: -55C ~ 125C; TemperatureCoefficient: C0G, NP0; Tolerance: 5%; Value: 1000pF; PartId: 5891; Supplier 1: Digi-Key; Supplier Part Number 1: 1276-2981-2-ND; ComponentLink1Description: Datasheet; ComponentLink1URL: http://www.samsungsem.com/kr/support/product-search/mlcc/CL21C102JCFNNNE.jsp; ComponentLink2Description: Digi-Key listing; ComponentLink2URL: http://digikey.com/product-detail/en/CL21C102JCFNNNE/1276-2981-2-ND/3888639; Voltage: 100V; Price: 0.0337; Type: -; Device Package: 0805 (2012 Metric)
footprint CAP 0805/2012
pins: 1, 2

## CL21C102JDFNFNE
designator C?, comment 1000pF
CAP CER 1000PF 200V NP0 0805; Part Number: CL21C102JDFNFNE; Manufacturer: Samsung Electro-Mechanics America, Inc.; TemperatureRange: -55C ~ 125C; TemperatureCoefficient: C0G, NP0; Tolerance: 5%; Value: 1000pF; PartId: 5983; Supplier 1: Digi-Key; Supplier Part Number 1: 1276-2982-2-ND; ComponentLink1Description: Datasheet; ComponentLink1URL: http://www.samsungsem.com/kr/support/product-search/mlcc/CL21C102JDFNFNE.jsp; ComponentLink2Description: Digi-Key listing; ComponentLink2URL: http://digikey.com/product-detail/en/CL21C102JDFNFNE/1276-2982-2-ND/3888640; Voltage: 200V; Price: 0.065; Type: -; Device Package: 0805 (2012 Metric)
footprint CAP 0805/2012
pins: 1, 2

## CL21C103JBFNNNE
designator C?, comment 10000pF
CAP CER 10000PF 50V NP0 0805; Part Number: CL21C103JBFNNNE; Manufacturer: Samsung Electro-Mechanics America, Inc.; TemperatureRange: -55C ~ 125C; TemperatureCoefficient: C0G, NP0; Tolerance: 5%; Value: 10000pF; PartId: 6062; Supplier 1: Digi-Key; Supplier Part Number 1: 1276-2984-2-ND; ComponentLink1Description: Datasheet; ComponentLink1URL: http://www.samsungsem.com/kr/support/product-search/mlcc/CL21C103JBFNNNE.jsp; ComponentLink2Description: Digi-Key listing; ComponentLink2URL: http://digikey.com/product-detail/en/CL21C103JBFNNNE/1276-2984-2-ND/3888642; Voltage: 50V; Price: 0.0947; Type: -; Device Package: 0805 (2012 Metric)
footprint CAP 0805/2012
pins: 1, 2

## CL21C120FBANNNC
designator C?, comment 12pF
CAP CER 12PF 50V NP0 0805; Part Number: CL21C120FBANNNC; Manufacturer: Samsung Electro-Mechanics America, Inc.; TemperatureRange: -55C ~ 125C; TemperatureCoefficient: C0G, NP0; Tolerance: 1%; Value: 12pF; PartId: 5882; Supplier 1: Digi-Key; Supplier Part Number 1: 1276-2579-2-ND; ComponentLink1Description: Datasheet; ComponentLink1URL: http://media.digikey.com/pdf/Data%20Sheets/Samsung%20PDFs/CL21C120FBANNNC_Spec.pdf; ComponentLink2Description: Digi-Key listing; ComponentLink2URL: http://digikey.com/product-detail/en/CL21C120FBANNNC/1276-2579-2-ND/3888237; Voltage: 50V; Price: 0.0318; Type: -; Device Package: 0805 (2012 Metric)
footprint CAP 0805/2012
pins: 1, 2

## CL21C120JBANNNC
designator C?, comment 12pF
CAP CER 12PF 50V NP0 0805; Part Number: CL21C120JBANNNC; Manufacturer: Samsung Electro-Mechanics America, Inc.; TemperatureRange: -55C ~ 125C; TemperatureCoefficient: C0G, NP0; Tolerance: 5%; Value: 12pF; PartId: 5709; Supplier 1: Digi-Key; Supplier Part Number 1: 1276-1120-2-ND; ComponentLink1Description: Datasheet; ComponentLink1URL: http://www.samsungsem.com/kr/support/product-search/mlcc/CL21C120JBANNNC.jsp; ComponentLink2Description: Digi-Key listing; ComponentLink2URL: http://digikey.com/product-detail/en/CL21C120JBANNNC/1276-1120-2-ND/3886778; Voltage: 50V; Price: 0.0132; Type: -; Device Package: 0805 (2012 Metric)
footprint CAP 0805/2012
pins: 1, 2

## CL21C121JDCNNNC
designator C?, comment 120pF
CAP CER 120PF 200V NP0 0805; Part Number: CL21C121JDCNNNC; Manufacturer: Samsung Electro-Mechanics America, Inc.; TemperatureRange: -55C ~ 125C; TemperatureCoefficient: C0G, NP0; Tolerance: 5%; Value: 120pF; PartId: 5898; Supplier 1: Digi-Key; Supplier Part Number 1: 1276-1201-2-ND; ComponentLink1Description: Datasheet; ComponentLink1URL: http://www.samsungsem.com/kr/support/product-search/mlcc/CL21C121JDCNNNC.jsp; ComponentLink2Description: Digi-Key listing; ComponentLink2URL: http://digikey.com/product-detail/en/CL21C121JDCNNNC/1276-1201-2-ND/3886859; Voltage: 200V; Price: 0.0343; Type: -; Device Package: 0805 (2012 Metric)
footprint CAP 0805/2012
pins: 1, 2

## CL21C122FBFNNWE
designator C?, comment 1200pF
CAP CER 1200PF 50V NP0 0805; Part Number: CL21C122FBFNNWE; Manufacturer: Samsung Electro-Mechanics America, Inc.; TemperatureRange: -55C ~ 125C; TemperatureCoefficient: C0G, NP0; Tolerance: 1%; Value: 1200pF; PartId: 6129; Supplier 1: Digi-Key; Supplier Part Number 1: 1276-2985-2-ND; ComponentLink1Description: Datasheet; ComponentLink1URL: http://www.samsungsem.com/global/front/downloadcms.do?path=%2F%2Fglobal%2F%2Fsupport%2F%2Flibrary%2F%2Fproduct-catalog%2F%2F__icsFiles%2F%2Fafieldfile%2F%2F2015%2F%2F11%2F%2F18&fileName=MLCC_1.pdf; ComponentLink2Description: Digi-Key listing; ComponentLink2URL: http://digikey.com/product-detail/en/CL21C122FBFNNWE/1276-2985-2-ND/3888643; Voltage: 50V; Price: 0.2127; Type: -; Device Package: 0805 (2012 Metric)
footprint CAP 0805/2012
pins: 1, 2

## CL21C122JBFNNNE
designator C?, comment 1200pF
CAP CER 1200PF 50V NP0 0805; Part Number: CL21C122JBFNNNE; Manufacturer: Samsung Electro-Mechanics America, Inc.; TemperatureRange: -55C ~ 125C; TemperatureCoefficient: C0G, NP0; Tolerance: 5%; Value: 1200pF; PartId: 5886; Supplier 1: Digi-Key; Supplier Part Number 1: 1276-2986-2-ND; ComponentLink1Description: Datasheet; ComponentLink1URL: http://www.samsungsem.com/kr/support/product-search/mlcc/CL21C122JBFNNNE.jsp; ComponentLink2Description: Digi-Key listing; ComponentLink2URL: http://digikey.com/product-detail/en/CL21C122JBFNNNE/1276-2986-2-ND/3888644; Voltage: 50V; Price: 0.032; Type: -; Device Package: 0805 (2012 Metric)
footprint CAP 0805/2012
pins: 1, 2

## CL21C130JBANNNC
designator C?, comment 13pF
CAP CER 13PF 50V NP0 0805; Part Number: CL21C130JBANNNC; Manufacturer: Samsung Electro-Mechanics America, Inc.; TemperatureRange: -55C ~ 125C; TemperatureCoefficient: C0G, NP0; Tolerance: 5%; Value: 13pF; PartId: 5672; Supplier 1: Digi-Key; Supplier Part Number 1: 1276-2582-2-ND; ComponentLink1Description: Datasheet; ComponentLink1URL: http://www.samsungsem.com/kr/support/product-search/mlcc/CL21C130JBANNNC.jsp; ComponentLink2Description: Digi-Key listing; ComponentLink2URL: http://digikey.com/product-detail/en/CL21C130JBANNNC/1276-2582-2-ND/3888240; Voltage: 50V; Price: 0.0054; Type: -; Device Package: 0805 (2012 Metric)
footprint CAP 0805/2012
pins: 1, 2

## CL21C140JBANNNC
designator C?, comment 14pF
CAP CER 14PF 50V NP0 0805; Part Number: CL21C140JBANNNC; Manufacturer: Samsung Electro-Mechanics America, Inc.; TemperatureRange: -55C ~ 125C; TemperatureCoefficient: C0G, NP0; Tolerance: 5%; Value: 14pF; PartId: 5683; Supplier 1: Digi-Key; Supplier Part Number 1: 1276-2584-2-ND; ComponentLink1Description: Datasheet; ComponentLink1URL: http://www.samsungsem.com/kr/support/product-search/mlcc/CL21C140JBANNNC.jsp; ComponentLink2Description: Digi-Key listing; ComponentLink2URL: http://digikey.com/product-detail/en/CL21C140JBANNNC/1276-2584-2-ND/3888242; Voltage: 50V; Price: 0.0061; Type: -; Device Package: 0805 (2012 Metric)
footprint CAP 0805/2012
pins: 1, 2

## CL21C150JBANNNC
designator C?, comment 15pF
CAP CER 15PF 50V NP0 0805; Part Number: CL21C150JBANNNC; Manufacturer: Samsung Electro-Mechanics America, Inc.; TemperatureRange: -55C ~ 125C; TemperatureCoefficient: C0G, NP0; Tolerance: 5%; Value: 15pF; PartId: 5747; Supplier 1: Digi-Key; Supplier Part Number 1: 1276-1163-2-ND; ComponentLink1Description: Datasheet; ComponentLink1URL: http://www.samsungsem.com/kr/support/product-search/mlcc/CL21C150JBANNNC.jsp; ComponentLink2Description: Digi-Key listing; ComponentLink2URL: http://digikey.com/product-detail/en/CL21C150JBANNNC/1276-1163-2-ND/3886821; Voltage: 50V; Price: 0.0163; Type: -; Device Package: 0805 (2012 Metric)
footprint CAP 0805/2012
pins: 1, 2

## CL21C150JCANNNC
designator C?, comment 15pF
CAP CER 15PF 100V NP0 0805; Part Number: CL21C150JCANNNC; Manufacturer: Samsung Electro-Mechanics America, Inc.; TemperatureRange: -55C ~ 125C; TemperatureCoefficient: C0G, NP0; Tolerance: 5%; Value: 15pF; PartId: 5838; Supplier 1: Digi-Key; Supplier Part Number 1: 1276-2587-2-ND; ComponentLink1Description: Datasheet; ComponentLink1URL: http://www.samsungsem.com/kr/support/product-search/mlcc/CL21C150JCANNNC.jsp; ComponentLink2Description: Digi-Key listing; ComponentLink2URL: http://digikey.com/product-detail/en/CL21C150JCANNNC/1276-2587-2-ND/3888245; Voltage: 100V; Price: 0.0235; Type: -; Device Package: 0805 (2012 Metric)
footprint CAP 0805/2012
pins: 1, 2

## CL21C151GBANNNC
designator C?, comment 150pF
CAP CER 150PF 50V NP0 0805; Part Number: CL21C151GBANNNC; Manufacturer: Samsung Electro-Mechanics America, Inc.; TemperatureRange: -55C ~ 125C; TemperatureCoefficient: C0G, NP0; Tolerance: 2%; Value: 150pF; PartId: 5933; Supplier 1: Digi-Key; Supplier Part Number 1: 1276-2589-2-ND; ComponentLink1Description: Datasheet; ComponentLink1URL: http://www.samsungsem.com/kr/support/product-search/mlcc/CL21C151GBANNNC.jsp; ComponentLink2Description: Digi-Key listing; ComponentLink2URL: http://digikey.com/product-detail/en/CL21C151GBANNNC/1276-2589-2-ND/3888247; Voltage: 50V; Price: 0.043; Type: -; Device Package: 0805 (2012 Metric)
footprint CAP 0805/2012
pins: 1, 2

## CL21C151JCANNNC
designator C?, comment 150pF
CAP CER 150PF 100V NP0 0805; Part Number: CL21C151JCANNNC; Manufacturer: Samsung Electro-Mechanics America, Inc.; TemperatureRange: -55C ~ 125C; TemperatureCoefficient: C0G, NP0; Tolerance: 5%; Value: 150pF; PartId: 5896; Supplier 1: Digi-Key; Supplier Part Number 1: 1276-2591-2-ND; ComponentLink1Description: Datasheet; ComponentLink1URL: http://www.samsungsem.com/kr/support/product-search/mlcc/CL21C151JCANNNC.jsp; ComponentLink2Description: Digi-Key listing; ComponentLink2URL: http://digikey.com/product-detail/en/CL21C151JCANNNC/1276-2591-2-ND/3888249; Voltage: 100V; Price: 0.034; Type: -; Device Package: 0805 (2012 Metric)
footprint CAP 0805/2012
pins: 1, 2

## CL21C160JBANNNC
designator C?, comment 16pF
CAP CER 16PF 50V NP0 0805; Part Number: CL21C160JBANNNC; Manufacturer: Samsung Electro-Mechanics America, Inc.; TemperatureRange: -55C ~ 125C; TemperatureCoefficient: C0G, NP0; Tolerance: 5%; Value: 16pF; PartId: 5674; Supplier 1: Digi-Key; Supplier Part Number 1: 1276-2592-2-ND; ComponentLink1Description: Datasheet; ComponentLink1URL: http://www.samsungsem.com/kr/support/product-search/mlcc/CL21C160JBANNNC.jsp; ComponentLink2Description: Digi-Key listing; ComponentLink2URL: http://digikey.com/product-detail/en/CL21C160JBANNNC/1276-2592-2-ND/3888250; Voltage: 50V; Price: 0.0054; Type: -; Device Package: 0805 (2012 Metric)
footprint CAP 0805/2012
pins: 1, 2